# EAGLE library part R/2R-7 (library resistor-sil)
R/2R Ladder 7 Murata RGSD14L
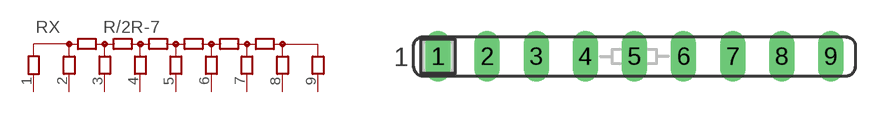
[diagram p38: symbol with the pads of SIL9; footprint SIL9]

Designator prefix RX

## R/2R-7 (OC_FARNELL: unknown; OC_NEWARK: unknown)  [SIL9]
1  IN  pas
2  B7  pas
3  B6  pas
4  B5  pas
5  B4  pas
6  B3  pas
7  B2  pas
8  B1  pas
9  OUT  pas

## Footprint SIL9 (pad centres in mm)
Single In Line
drill 0.813 long: 1 -10.16,0; 2 -7.62,0; 3 -5.08,0; 4 -2.54,0; 5 0,0; 6 2.54,0; 7 5.08,0; 8 7.62,0; 9 10.16,0